# Altium integrated library WE-TMSB (rev24a).IntLib: 17 symbols
Pins are listed as number, name and electrical type; pins without a type are passive.

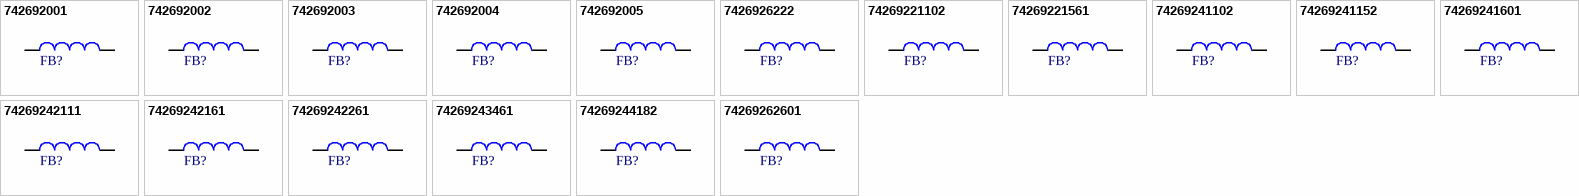
[diagram p0: symbols 742692001 to 74269262601]

## 742692001
designator FB?, comment 10Ohm  (value not drawn)
WE-TMSB Tiny Multilayer Suppression Bead, size 0201, 10Ohm, 0.65A; Manufacturer Part Number: 742692001; Manufacturer: Wurth Elektronik; Case/Size Code: 0201; DC Resistance: 55mOhm; Impedance @1GHz: 12Ohm; Impedance Max: 12.6Ohm; Impedance Max Test Condition: 954MHz; Type: Wide Band; Category: Ferrites for PCB Assembly; Match Code: WE-TMSB; ComponentLink1Description: Website Link; ComponentLink1URL: https://www.we-online.com/redexpert/article/742692001?ad; ComponentLink2Description: Datasheet Link; ComponentLink2URL: https://www.we-online.com/redexpert/spec/742692001?ad; Mount: Surface Mount; Operating Temperature Max: 125°C; Operating Temperature Min: -55°C; Packaging: Tape and Reel; Length: 0.6mm; Width: 0.3mm; Height: 0.3mm; Impedance @100MHz: 10Ohm; Rated Current: 0.65A
footprint WE-TMSB_0201_HF/HS/WB
simulation model 0201_742692001_10ohm
pins: 1, 2

## 742692002
designator FB?, comment 60Ohm  (value not drawn)
WE-TMSB Tiny Multilayer Suppression Bead, size 0201, 60Ohm, 0.4A; Manufacturer Part Number: 742692002; Manufacturer: Wurth Elektronik; Case/Size Code: 0201; DC Resistance: 250mOhm; Impedance @1GHz: 133Ohm; Impedance Max: 135Ohm; Impedance Max Test Condition: 815MHz; Type: Wide Band; Category: Ferrites for PCB Assembly; Match Code: WE-TMSB; ComponentLink1Description: Website Link; ComponentLink1URL: https://www.we-online.com/redexpert/article/742692002?ad; ComponentLink2Description: Datasheet Link; ComponentLink2URL: https://www.we-online.com/redexpert/spec/742692002?ad; Mount: Surface Mount; Operating Temperature Max: 125°C; Operating Temperature Min: -55°C; Packaging: Tape and Reel; Length: 0.6mm; Width: 0.3mm; Height: 0.3mm; Impedance @100MHz: 60Ohm; Rated Current: 0.4A
footprint WE-TMSB_0201_HF/HS/WB
simulation model 0201_742692002_60ohm
pins: 1, 2

## 742692003
designator FB?, comment 120Ohm  (value not drawn)
WE-TMSB Tiny Multilayer Suppression Bead, size 0201, 120Ohm, 0.25A; Manufacturer Part Number: 742692003; Manufacturer: Wurth Elektronik; Case/Size Code: 0201; DC Resistance: 290mOhm; Impedance @1GHz: 250Ohm; Impedance Max: 259Ohm; Impedance Max Test Condition: 770MHz; Type: Wide Band; Category: Ferrites for PCB Assembly; Match Code: WE-TMSB; ComponentLink1Description: Website Link; ComponentLink1URL: https://www.we-online.com/redexpert/article/742692003?ad; ComponentLink2Description: Datasheet Link; ComponentLink2URL: https://www.we-online.com/redexpert/spec/742692003?ad; Mount: Surface Mount; Operating Temperature Max: 125°C; Operating Temperature Min: -55°C; Packaging: Tape and Reel; Length: 0.6mm; Width: 0.3mm; Height: 0.3mm; Impedance @100MHz: 120Ohm; Rated Current: 0.25A
footprint WE-TMSB_0201_HF/HS/WB
simulation model 0201_742692003_120ohm
pins: 1, 2

## 742692004
designator FB?, comment 240Ohm  (value not drawn)
WE-TMSB Tiny Multilayer Suppression Bead, size 0201, 240Ohm, 0.3A; Manufacturer Part Number: 742692004; Manufacturer: Wurth Elektronik; Case/Size Code: 0201; DC Resistance: 570mOhm; Impedance @1GHz: 342Ohm; Impedance Max: 460Ohm; Impedance Max Test Condition: 536MHz; Type: Wide Band; Category: Ferrites for PCB Assembly; Match Code: WE-TMSB; ComponentLink1Description: Website Link; ComponentLink1URL: https://www.we-online.com/redexpert/article/742692004?ad; ComponentLink2Description: Datasheet Link; ComponentLink2URL: https://www.we-online.com/redexpert/spec/742692004?ad; Mount: Surface Mount; Operating Temperature Max: 125°C; Operating Temperature Min: -55°C; Packaging: Tape and Reel; Length: 0.6mm; Width: 0.3mm; Height: 0.3mm; Impedance @100MHz: 240Ohm; Rated Current: 0.3A
footprint WE-TMSB_0201_HF/HS/WB
simulation model 0201_742692004_240ohm
pins: 1, 2

## 742692005
designator FB?, comment 300Ohm  (value not drawn)
WE-TMSB Tiny Multilayer Suppression Bead, size 0201, 300Ohm, 0.4A; Manufacturer Part Number: 742692005; Manufacturer: Wurth Elektronik; Case/Size Code: 0201; DC Resistance: 610mOhm; Impedance @1GHz: 297Ohm; Impedance Max: 455Ohm; Impedance Max Test Condition: 389MHz; Type: Wide Band; Category: Ferrites for PCB Assembly; Match Code: WE-TMSB; ComponentLink1Description: Website Link; ComponentLink1URL: https://www.we-online.com/redexpert/article/742692005?ad; ComponentLink2Description: Datasheet Link; ComponentLink2URL: https://www.we-online.com/redexpert/spec/742692005?ad; Mount: Surface Mount; Operating Temperature Max: 125°C; Operating Temperature Min: -55°C; Packaging: Tape and Reel; Length: 0.6mm; Width: 0.3mm; Height: 0.3mm; Impedance @100MHz: 300Ohm; Rated Current: 0.4A
footprint WE-TMSB_0201_HF/HS/WB
simulation model 0201_742692005_300ohm
pins: 1, 2

## 7426926222
designator FB?, comment 22Ohm  (value not drawn)
WE-TMSB Tiny Multilayer Suppression Bead, size 0603, 22Ohm, 7.5A; Manufacturer Part Number: 7426926222; Manufacturer: Wurth Elektronik; Case/Size Code: 0603; DC Resistance: 2.95mOhm; Impedance @1GHz: 38Ohm; Impedance Max: 41Ohm; Impedance Max Test Condition: 1660MHz; Type: High Current; Category: Ferrites for PCB Assembly; Match Code: WE-TMSB; ComponentLink1Description: Website Link; ComponentLink1URL: https://www.we-online.com/redexpert/article/7426926222?ad; ComponentLink2Description: Datasheet Link; ComponentLink2URL: https://www.we-online.com/redexpert/spec/7426926222?ad; Mount: Surface Mount; Operating Temperature Max: 125°C; Operating Temperature Min: -55°C; Packaging: Tape and Reel; Length: 1.6mm; Width: 0.8mm; Height: 0.8mm; Impedance @100MHz: 22Ohm; Rated Current: 7.5A
footprint WE-TMSB_0603_HC
simulation model 0603_7426926222_22ohm
pins: 1, 2

## 74269221102
designator FB?, comment 1000Ohm  (value not drawn)
WE-TMSB Tiny Multilayer Suppression Bead, size 0201, 1000Ohm, 0.2A; Manufacturer Part Number: 74269221102; Manufacturer: Wurth Elektronik; Case/Size Code: 0201; DC Resistance: 1130mOhm; Impedance @1GHz: 317Ohm; Impedance Max: 1190Ohm; Impedance Max Test Condition: 180MHz; Type: Wide Band; Category: Ferrites for PCB Assembly; Match Code: WE-TMSB; ComponentLink1Description: Website Link; ComponentLink1URL: https://www.we-online.com/redexpert/article/74269221102?ad; ComponentLink2Description: Datasheet Link; ComponentLink2URL: https://www.we-online.com/redexpert/spec/74269221102?ad; Mount: Surface Mount; Operating Temperature Max: 125°C; Operating Temperature Min: -55°C; Packaging: Tape and Reel; Length: 0.6mm; Width: 0.3mm; Height: 0.3mm; Impedance @100MHz: 1000Ohm; Rated Current: 0.2A
footprint WE-TMSB_0201_HF/HS/WB
simulation model 0201_74269221102_1000ohm
pins: 1, 2

## 74269221561
designator FB?, comment 560Ohm  (value not drawn)
WE-TMSB Tiny Multilayer Suppression Bead, size 0201, 560Ohm, 0.25A; Manufacturer Part Number: 74269221561; Manufacturer: Wurth Elektronik; Case/Size Code: 0201; DC Resistance: 750mOhm; Impedance @1GHz: 250Ohm; Impedance Max: 750Ohm; Impedance Max Test Condition: 225MHz; Type: Wide Band; Category: Ferrites for PCB Assembly; Match Code: WE-TMSB; ComponentLink1Description: Website Link; ComponentLink1URL: https://www.we-online.com/redexpert/article/74269221561?ad; ComponentLink2Description: Datasheet Link; ComponentLink2URL: https://www.we-online.com/redexpert/spec/74269221561?ad; Mount: Surface Mount; Operating Temperature Max: 125°C; Operating Temperature Min: -55°C; Packaging: Tape and Reel; Length: 0.6mm; Width: 0.3mm; Height: 0.3mm; Impedance @100MHz: 560Ohm; Rated Current: 0.25A
footprint WE-TMSB_0201_HF/HS/WB
simulation model 0201_74269221561_560ohm
pins: 1, 2

## 74269241102
designator FB?, comment 1000Ohm  (value not drawn)
WE-TMSB Tiny Multilayer Suppression Bead, size 0402, 1000Ohm, 0.48A; Manufacturer Part Number: 74269241102; Manufacturer: Wurth Elektronik; Case/Size Code: 0402; DC Resistance: 430mOhm; Impedance @1GHz: 216Ohm; Impedance Max: 1157Ohm; Impedance Max Test Condition: 129MHz; Type: Wide Band; Category: Ferrites for PCB Assembly; Match Code: WE-TMSB; ComponentLink1Description: Website Link; ComponentLink1URL: https://www.we-online.com/redexpert/article/74269241102?ad; ComponentLink2Description: Datasheet Link; ComponentLink2URL: https://www.we-online.com/redexpert/spec/74269241102?ad; Mount: Surface Mount; Operating Temperature Max: 125°C; Operating Temperature Min: -55°C; Packaging: Tape and Reel; Length: 1mm; Width: 0.5mm; Height: 0.5mm; Impedance @100MHz: 1000Ohm; Rated Current: 0.48A
footprint WE-TMSB_0402_HF/HS/WB
simulation model 0402_74269241102_1000ohm
pins: 1, 2

## 74269241152
designator FB?, comment 1500Ohm  (value not drawn)
WE-TMSB Tiny Multilayer Suppression Bead, size 0402, 1500Ohm, 0.5A; Manufacturer Part Number: 74269241152; Manufacturer: Wurth Elektronik; Case/Size Code: 0402; DC Resistance: 430mOhm; Impedance @1GHz: 224Ohm; Impedance Max: 1533Ohm; Impedance Max Test Condition: 118MHz; Type: Wide Band; Category: Ferrites for PCB Assembly; Match Code: WE-TMSB; ComponentLink1Description: Website Link; ComponentLink1URL: https://www.we-online.com/redexpert/article/74269241152?ad; ComponentLink2Description: Datasheet Link; ComponentLink2URL: https://www.we-online.com/redexpert/spec/74269241152?ad; Mount: Surface Mount; Operating Temperature Max: 125°C; Operating Temperature Min: -55°C; Packaging: Tape and Reel; Length: 1mm; Width: 0.5mm; Height: 0.5mm; Impedance @100MHz: 1500Ohm; Rated Current: 0.5A
footprint WE-TMSB_0402_HF/HS/WB
simulation model 0402_74269241152_1500ohm
pins: 1, 2

## 74269241601
designator FB?, comment 600Ohm  (value not drawn)
WE-TMSB Tiny Multilayer Suppression Bead, size 0402, 600Ohm, 0.85A; Manufacturer Part Number: 74269241601; Manufacturer: Wurth Elektronik; Case/Size Code: 0402; DC Resistance: 220mOhm; Impedance @1GHz: 218Ohm; Impedance Max: 720Ohm; Impedance Max Test Condition: 211MHz; Type: Wide Band; Category: Ferrites for PCB Assembly; Match Code: WE-TMSB; ComponentLink1Description: Website Link; ComponentLink1URL: https://www.we-online.com/redexpert/article/74269241601?ad; ComponentLink2Description: Datasheet Link; ComponentLink2URL: https://www.we-online.com/redexpert/spec/74269241601?ad; Mount: Surface Mount; Operating Temperature Max: 125°C; Operating Temperature Min: -55°C; Packaging: Tape and Reel; Length: 1mm; Width: 0.5mm; Height: 0.5mm; Impedance @100MHz: 600Ohm; Rated Current: 0.85A
footprint WE-TMSB_0402_HF/HS/WB
simulation model 0402_74269241601_600ohm
pins: 1, 2

## 74269242111
designator FB?, comment 110Ohm  (value not drawn)
WE-TMSB Tiny Multilayer Suppression Bead, size 0402, 110Ohm, 1.2A; Manufacturer Part Number: 74269242111; Manufacturer: Wurth Elektronik; Case/Size Code: 0402; DC Resistance: 70mOhm; Impedance @1GHz: 188Ohm; Impedance Max: 195Ohm; Impedance Max Test Condition: 745MHz; Type: Wide Band; Category: Ferrites for PCB Assembly; Match Code: WE-TMSB; ComponentLink1Description: Website Link; ComponentLink1URL: https://www.we-online.com/redexpert/article/74269242111?ad; ComponentLink2Description: Datasheet Link; ComponentLink2URL: https://www.we-online.com/redexpert/spec/74269242111?ad; Mount: Surface Mount; Operating Temperature Max: 125°C; Operating Temperature Min: -55°C; Packaging: Tape and Reel; Length: 1mm; Width: 0.5mm; Height: 0.5mm; Impedance @100MHz: 110Ohm; Rated Current: 1.2A
footprint WE-TMSB_0402_HF/HS/WB
simulation model 0402_74269242111_110ohm
pins: 1, 2

## 74269242161
designator FB?, comment 160Ohm  (value not drawn)
WE-TMSB Tiny Multilayer Suppression Bead, size 0402, 160Ohm, 1A; Manufacturer Part Number: 74269242161; Manufacturer: Wurth Elektronik; Case/Size Code: 0402; DC Resistance: 120mOhm; Impedance @1GHz: 250Ohm; Impedance Max: 280Ohm; Impedance Max Test Condition: 550MHz; Type: High Current; Category: Ferrites for PCB Assembly; Match Code: WE-TMSB; ComponentLink1Description: Website Link; ComponentLink1URL: https://www.we-online.com/redexpert/article/74269242161?ad; ComponentLink2Description: Datasheet Link; ComponentLink2URL: https://www.we-online.com/redexpert/spec/74269242161?ad; Mount: Surface Mount; Operating Temperature Max: 125°C; Operating Temperature Min: -55°C; Packaging: Tape and Reel; Length: 1mm; Width: 0.5mm; Height: 0.5mm; Impedance @100MHz: 160Ohm; Rated Current: 1A
footprint WE-TMSB_0402_HC
simulation model 0402_74269242161_160ohm
pins: 1, 2

## 74269242261
designator FB?, comment 260Ohm  (value not drawn)
WE-TMSB Tiny Multilayer Suppression Bead, size 0402, 260Ohm, 1A; Manufacturer Part Number: 74269242261; Manufacturer: Wurth Elektronik; Case/Size Code: 0402; DC Resistance: 120mOhm; Impedance @1GHz: 220Ohm; Impedance Max: 375Ohm; Impedance Max Test Condition: 300MHz; Type: High Current; Category: Ferrites for PCB Assembly; Match Code: WE-TMSB; ComponentLink1Description: Website Link; ComponentLink1URL: https://www.we-online.com/redexpert/article/74269242261?ad; ComponentLink2Description: Datasheet Link; ComponentLink2URL: https://www.we-online.com/redexpert/spec/74269242261?ad; Mount: Surface Mount; Operating Temperature Max: 125°C; Operating Temperature Min: -55°C; Packaging: Tape and Reel; Length: 1mm; Width: 0.5mm; Height: 0.5mm; Impedance @100MHz: 260Ohm; Rated Current: 1A
footprint WE-TMSB_0402_HC
simulation model 0402_74269242261_260ohm
pins: 1, 2

## 74269243461
designator FB?, comment 460Ohm  (value not drawn)
WE-TMSB Tiny Multilayer Suppression Bead, size 0402, 460Ohm, 0.5A; Manufacturer Part Number: 74269243461; Manufacturer: Wurth Elektronik; Case/Size Code: 0402; DC Resistance: 350mOhm; Impedance @1GHz: 300Ohm; Impedance Max: 1250Ohm; Impedance Max Test Condition: 230MHz; Type: High Speed; Category: Ferrites for PCB Assembly; Match Code: WE-TMSB; ComponentLink1Description: Website Link; ComponentLink1URL: https://www.we-online.com/redexpert/article/74269243461?ad; ComponentLink2Description: Datasheet Link; ComponentLink2URL: https://www.we-online.com/redexpert/spec/74269243461?ad; Mount: Surface Mount; Operating Temperature Max: 125°C; Operating Temperature Min: -55°C; Packaging: Tape and Reel; Length: 1mm; Width: 0.5mm; Height: 0.5mm; Impedance @100MHz: 460Ohm; Rated Current: 0.5A
footprint WE-TMSB_0402_HF/HS/WB
simulation model 0402_74269243461_460ohm
pins: 1, 2

## 74269244182
designator FB?, comment 1800Ohm  (value not drawn)
WE-TMSB Tiny Multilayer Suppression Bead, size 0402, 1800Ohm, 0.21A; Manufacturer Part Number: 74269244182; Manufacturer: Wurth Elektronik; Case/Size Code: 0402; DC Resistance: 1910mOhm; Impedance @1GHz: 1500Ohm; Impedance Max: 2700Ohm; Impedance Max Test Condition: 450MHz; Type: High Frequency; Category: Ferrites for PCB Assembly; Match Code: WE-TMSB; ComponentLink1Description: Website Link; ComponentLink1URL: https://www.we-online.com/redexpert/article/74269244182?ad; ComponentLink2Description: Datasheet Link; ComponentLink2URL: https://www.we-online.com/redexpert/spec/74269244182?ad; Mount: Surface Mount; Operating Temperature Max: 125°C; Operating Temperature Min: -55°C; Packaging: Tape and Reel; Length: 1mm; Width: 0.5mm; Height: 0.5mm; Impedance @100MHz: 1800Ohm; Rated Current: 0.21A
footprint WE-TMSB_0402_HF/HS/WB
simulation model 0402_74269244182_1800ohm
pins: 1, 2

## 74269262601
designator FB?, comment 600Ohm  (value not drawn)
WE-TMSB Tiny Multilayer Suppression Bead, size 0603, 600Ohm, 1.5A; Manufacturer Part Number: 74269262601; Manufacturer: Wurth Elektronik; Case/Size Code: 0603; DC Resistance: 90mOhm; Impedance @1GHz: 170Ohm; Impedance Max: 634Ohm; Impedance Max Test Condition: 184MHz; Type: High Current; Category: Ferrites for PCB Assembly; Match Code: WE-TMSB; ComponentLink1Description: Website Link; ComponentLink1URL: https://www.we-online.com/redexpert/article/74269262601?ad; ComponentLink2Description: Datasheet Link; ComponentLink2URL: https://www.we-online.com/redexpert/spec/74269262601?ad; Mount: Surface Mount; Operating Temperature Max: 125°C; Operating Temperature Min: -55°C; Packaging: Tape and Reel; Length: 1.6mm; Width: 0.8mm; Height: 0.8mm; Impedance @100MHz: 600Ohm; Rated Current: 1.5A
footprint WE-TMSB_0603_HC
simulation model 0603_74269262601_600ohm
pins: 1, 2